# Altium schematic symbol library Custom_Schem.SchLib: 10 symbols
Pins are listed as number, name and electrical type; pins without a type are passive.

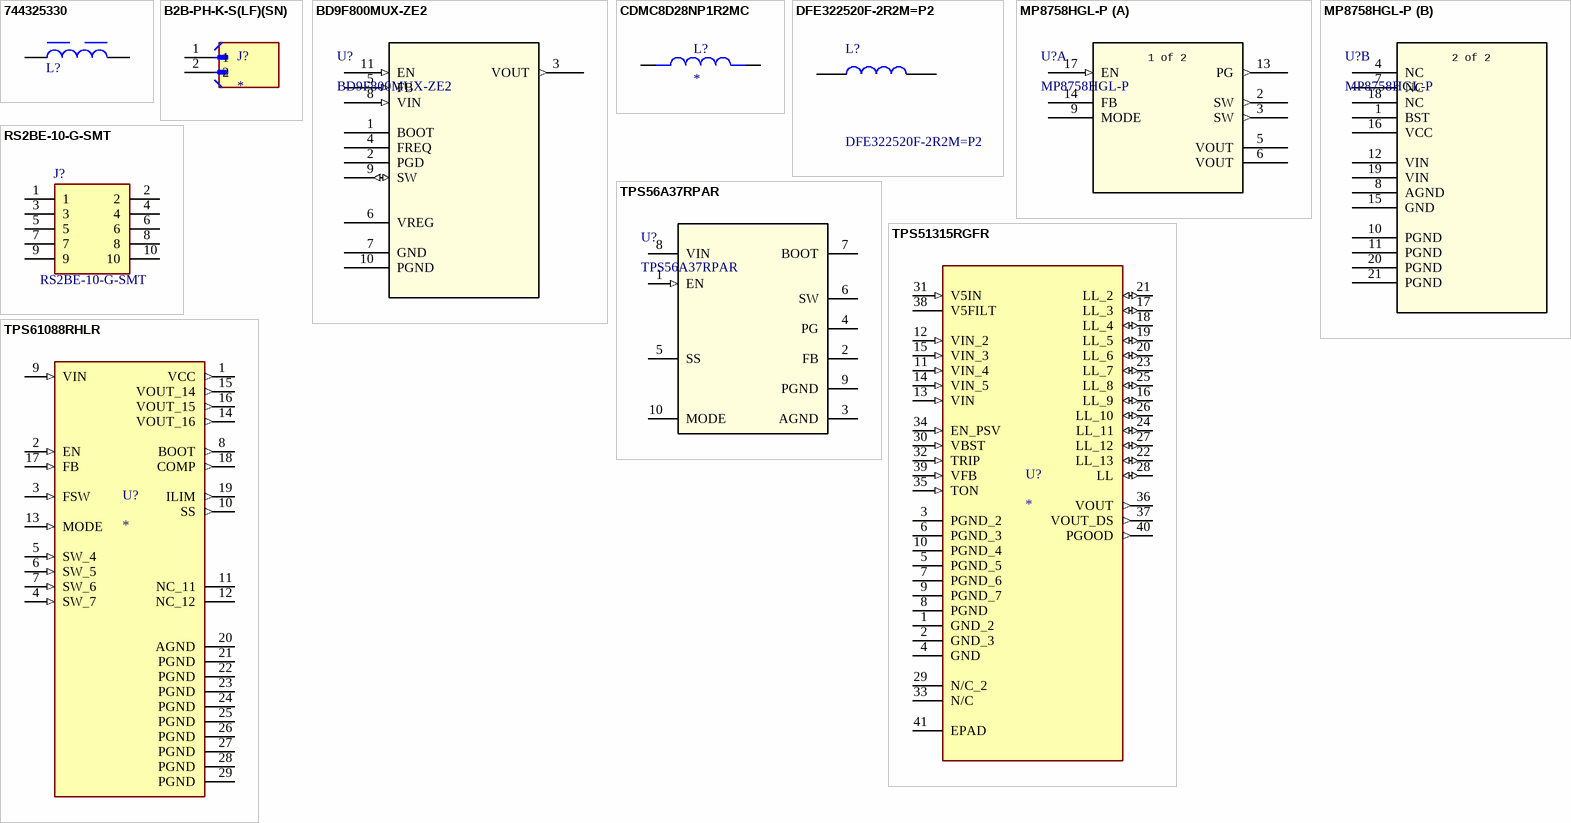
[diagram p0: symbols 744325330 to TPS61088RHLR]

## 744325330
designator L?, comment 3.3µH, 16.6A  (value not drawn)
WE-HCI SMT Flat Wire High Current Inductor, size 1050, 3.3µH, 16.6A, 5.9mΩ; Manufacturer Part Number: 744325330; Manufacturer: Wurth Elektronik; Case/Size Code: 1050; Material: Superflux; Saturation Current: 15A; Self Resonant Frequency: 54MHz; Category: Shielded Power Inductors; Match Code: WE-HCI; ComponentLink1Description: Website Link; ComponentLink1URL: https://www.we-online.com/redexpert/article/744325330?ad; ComponentLink2Description: Datasheet Link; ComponentLink2URL: https://www.we-online.com/redexpert/spec/744325330?ad; Mount: Surface Mount; Operating Temperature Max: 150°C; Operating Temperature Min: -40°C; Packaging: Tape and Reel; Length: 10.2mm; Width: 10.2mm; Height: 4.7mm; DC Resistance: 5.9mΩ; Inductance: 3.3µH; Performance Rated Current: 16.6A
footprint WE-HCI_1050 (SMT Flat Wire High Current Inductor, body 10.2x10.2mm)
pins: 1, 2

## B2B-PH-K-S(LF)(SN)
designator J?
Connector Header Through Hole 2 position 0.079 (2.00mm); MF: JST; MP: B2B-PH-K-S (LF)(SN); SnapEDA_Link: https://www.snapeda.com/parts/B2B-PH-K-S%20(LF)(SN)/JST/view-part/?ref=snap; Package: None; Value: *; Check_prices: https://www.snapeda.com/parts/B2B-PH-K-S%20(LF)(SN)/JST/view-part/?ref=eda
footprint JST_B2B-PH-K-S(LF)(SN)
pins: 1, 2

## BD9F800MUX-ZE2
designator U?
No Description Available; Manufacturer_Name: ROHM Semiconductor; Copyright: Copyright (C) 2026 Ultra Librarian. All rights reserved.; Manufacturer_Part_Number: BD9F800MUX-ZE2; Digi-Key_Part_Number_1: 846-BD9F800MUX-ZE2TR-ND; Digi-Key_Part_Number_2: 846-BD9F800MUX-ZE2CT-ND; Digi-Key_Part_Number_3: 846-BD9F800MUX-ZE2DKR-ND; RefDes: RefDes; Type: Type
footprint VQFN11_ROM
pins: 1 BOOT, 2 PGD, 3 VOUT (out), 4 FREQ, 5 FB (in), 6 VREG (power), 7 GND (power), 8 VIN (in), 9 SW (io), 10 PGND (power), 11 EN (in)

## CDMC8D28NP1R2MC
designator L?
Inductor Power Shielded Wirewound 1.2uH 20% 1MHz 12.9A 0.007Ohm DCR T/R; MF: Sumida; MP: CDMC8D28NP1R2MC; SnapEDA_Link: https://www.snapeda.com/parts/CDMC8D28NP1R2MC/Sumida/view-part/?ref=snap; Package: None; Value: *; Check_prices: https://www.snapeda.com/parts/CDMC8D28NP1R2MC/Sumida/view-part/?ref=eda
footprint IND_CDMC8D28NP1R2MC
pins: 1, 2

## DFE322520F-2R2M=P2
designator L?
2.2 H Shielded Wirewound Inductor 3.3 A 40mOhm Max 1210 (3225 Metric); Manufacturer_Name: Murata Electronics; Geometry.Height: 2mm; Avnet Part Number: *; Avnet Price/Stock: *; Manufacturer_Part_Number: DFE322520F-2R2M=P2; Datasheet Link: https://www.murata.com/-/media/webrenewal/support/library/catalog/products/inductor/chip/o05e.ashx?la=en-us
footprint INDC3225X200N
pins: 1, 2

## MP8758HGL-P
designator U?
10A 22V Synchronous Step-Down Converter with Hiccup OCP PFM/PWM Mode Selection; Manufacturer_Name: Monolithic Power Systems; Copyright: Copyright (C) 2026 Ultra Librarian. All rights reserved.; Manufacturer_Part_Number: MP8758HGL-P; RefDes: RefDes; Type: Type
footprint QFN-21_MP8758_MNP
part A pins: 2 SW (out), 3 SW (out), 5 VOUT (power), 6 VOUT (power), 9 MODE, 13 PG (out), 14 FB, 17 EN (in)
part B pins: 1 BST (power), 4 NC, 7 NC, 8 AGND (power), 10 PGND (power), 11 PGND (power), 12 VIN (power), 15 GND (power), 16 VCC (power), 18 NC, 19 VIN (power), 20 PGND (power), 21 PGND (power)
part A text: 1 of 2
part B text: 2 of 2

## RS2BE-10-G-SMT
designator J?
Receptacle Strip 10P 2.54mm Pitch SMT; Manufacturer_Name: Adam Tech; Geometry.Height: 5.05mm; Manufacturer_Part_Number: RS2BE-10-G-SMT; Mouser Part Number: *; Mouser Price/Stock: *; Arrow Part Number: *; Arrow Price/Stock: *; Datasheet Link: *
footprint RS2BE10GSMT
pins: 1, 2, 3, 4, 5, 6, 7, 8, 9, 10

## TPS56A37RPAR
designator U?
4.5V to 28V input, 10A synchronous buck converter 10-VQFN-HR -40 to 150; Manufacturer_Name: Texas Instruments; TYPE: TYPE; RefDes: RefDes; Copyright: Copyright (C) 2026 Ultra Librarian. All rights reserved.; Manufacturer_Part_Number: TPS56A37RPAR; Datasheet: https://www.ti.com/lit/gpn/tps56a37
footprint RPA0010A-MFG
pins: 1 EN (in), 2 FB, 3 AGND (power), 4 PG (oc), 5 SS, 6 SW, 7 BOOT, 8 VIN (power), 9 PGND (power), 10 MODE

## TPS51315RGFR
designator U?
10-A STEP-DOWN SYNCHRONOUS SWITCHER; MP: TPS51315RGFR; Package: None; Price: None; Value: *; Availability: Unavailable
footprint QFN50P500X700X100-41N
pins: 1 GND_2, 2 GND_3, 3 PGND_2, 4 GND, 5 PGND_5, 6 PGND_3, 7 PGND_6, 8 PGND, 9 PGND_7, 10 PGND_4, 11 VIN_4 (in), 12 VIN_2 (in), 13 VIN (in), 14 VIN_5 (in), 15 VIN_3 (in), 16 LL_9 (io), 17 LL_3 (io), 18 LL_4 (io), 19 LL_5 (io), 20 LL_6 (io), 21 LL_2 (io), 22 LL_13 (io), 23 LL_7 (io), 24 LL_11 (io), 25 LL_8 (io), 26 LL_10 (io), 27 LL_12 (io), 28 LL (io), 29 N/C_2, 30 VBST (in), 31 V5IN (in), 32 TRIP (in), 33 N/C, 34 EN_PSV (in), 35 TON (in), 36 VOUT (out), 37 VOUT_DS (out), 38 V5FILT (power), 39 VFB (in), 40 PGOOD (out), 41 EPAD

## TPS61088RHLR
designator U?
MP: TPS61088RHLR; Availability: Unavailable; Value: *; Package: None; Price: None
footprint IC_TPS61088RHLR
pins: 1 VCC (out), 2 EN (in), 3 FSW (in), 4 SW_7 (in), 5 SW_4 (in), 6 SW_5 (in), 7 SW_6 (in), 8 BOOT (out), 9 VIN (in), 10 SS (out), 11 NC_11, 12 NC_12, 13 MODE (in), 14 VOUT_16 (out), 15 VOUT_14 (out), 16 VOUT_15 (out), 17 FB (in), 18 COMP (out), 19 ILIM (out), 20 AGND (power), 21 PGND (power), 22 PGND (power), 23 PGND (power), 24 PGND (power), 25 PGND (power), 26 PGND (power), 27 PGND (power), 28 PGND (power), 29 PGND (power)